# EAGLE library part PIC33FJ64GS608 (library 1dah)
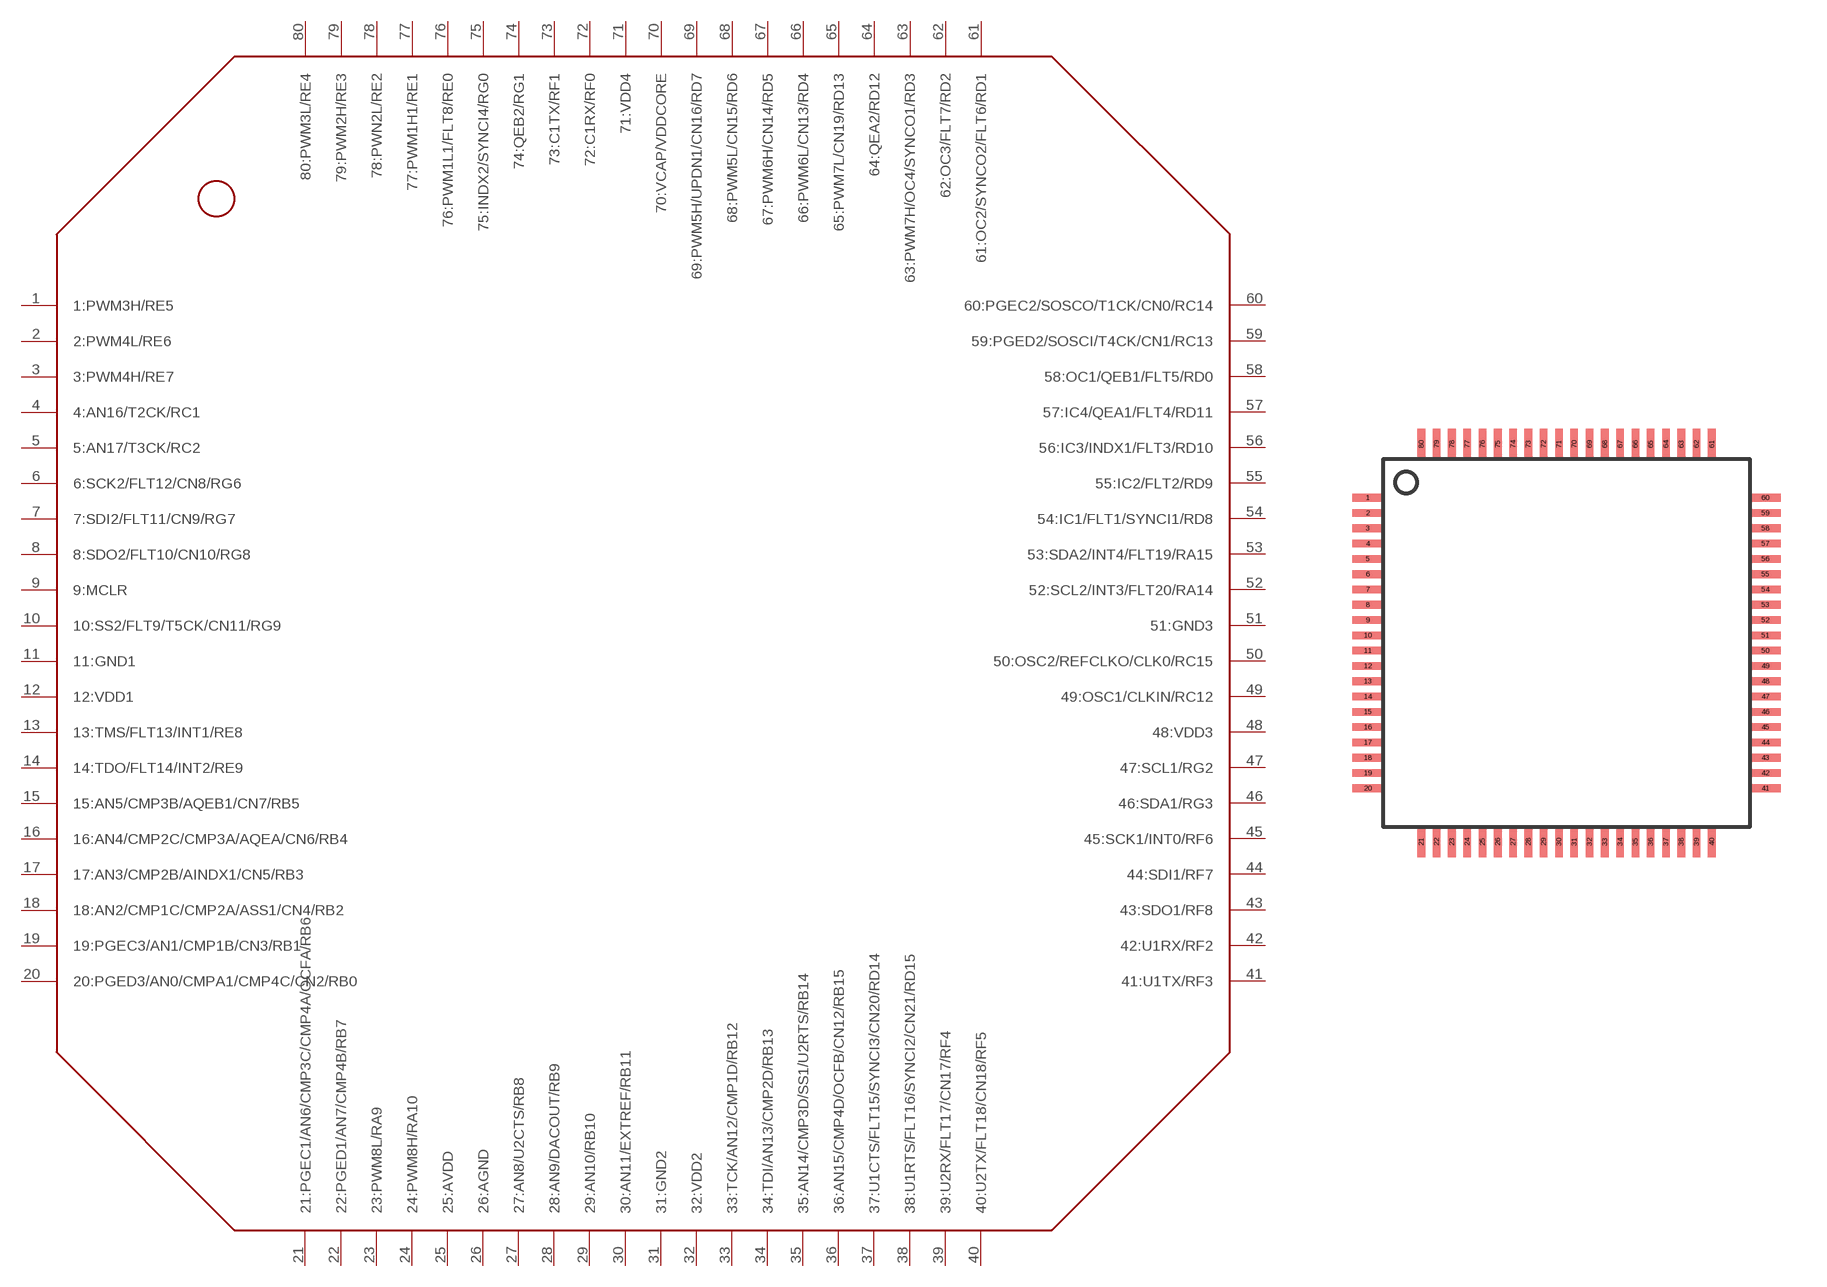
[diagram p15: symbol with the pads of TQFP80; footprint TQFP80]

Designator prefix -

## PIC33FJ64GS608  [TQFP80]
1  1:PWM3H/RE5
2  2:PWM4L/RE6
3  3:PWM4H/RE7
4  4:AN16/T2CK/RC1
5  5:AN17/T3CK/RC2
6  6:SCK2/FLT12/CN8/RG6
7  7:SDI2/FLT11/CN9/RG7
8  8:SDO2/FLT10/CN10/RG8
9  9:MCLR
10  10:SS2/FLT9/T5CK/CN11/RG9
11  11:GND1
12  12:VDD1
13  13:TMS/FLT13/INT1/RE8
14  14:TDO/FLT14/INT2/RE9
15  15:AN5/CMP3B/AQEB1/CN7/RB5
16  16:AN4/CMP2C/CMP3A/AQEA/CN6/RB4
17  17:AN3/CMP2B/AINDX1/CN5/RB3
18  18:AN2/CMP1C/CMP2A/ASS1/CN4/RB2
19  19:PGEC3/AN1/CMP1B/CN3/RB1
20  20:PGED3/AN0/CMPA1/CMP4C/CN2/RB0
21  21:PGEC1/AN6/CMP3C/CMP4A/OCFA/RB6
22  22:PGED1/AN7/CMP4B/RB7
23  23:PWM8L/RA9
24  24:PWM8H/RA10
25  25:AVDD
26  26:AGND
27  27:AN8/U2CTS/RB8
28  28:AN9/DACOUT/RB9
29  29:AN10/RB10
30  30:AN11/EXTREF/RB11
31  31:GND2
32  32:VDD2
33  33:TCK/AN12/CMP1D/RB12
34  34:TDI/AN13/CMP2D/RB13
35  35:AN14/CMP3D/SS1/U2RTS/RB14
36  36:AN15/CMP4D/OCFB/CN12/RB15
37  37:U1CTS/FLT15/SYNCI3/CN20/RD14
38  38:U1RTS/FLT16/SYNCI2/CN21/RD15
39  39:U2RX/FLT17/CN17/RF4
40  40:U2TX/FLT18/CN18/RF5
41  41:U1TX/RF3
42  42:U1RX/RF2
43  43:SDO1/RF8
44  44:SDI1/RF7
45  45:SCK1/INT0/RF6
46  46:SDA1/RG3
47  47:SCL1/RG2
48  48:VDD3
49  49:OSC1/CLKIN/RC12
50  50:OSC2/REFCLKO/CLK0/RC15
51  51:GND3
52  52:SCL2/INT3/FLT20/RA14
53  53:SDA2/INT4/FLT19/RA15
54  54:IC1/FLT1/SYNCI1/RD8
55  55:IC2/FLT2/RD9
56  56:IC3/INDX1/FLT3/RD10
57  57:IC4/QEA1/FLT4/RD11
58  58:OC1/QEB1/FLT5/RD0
59  59:PGED2/SOSCI/T4CK/CN1/RC13
60  60:PGEC2/SOSCO/T1CK/CN0/RC14
61  61:OC2/SYNCO2/FLT6/RD1
62  62:OC3/FLT7/RD2
63  63:PWM7H/OC4/SYNCO1/RD3
64  64:QEA2/RD12
65  65:PWM7L/CN19/RD13
66  66:PWM6L/CN13/RD4
67  67:PWM6H/CN14/RD5
68  68:PWM5L/CN15/RD6
69  69:PWM5H/UPDN1/CN16/RD7
70  70:VCAP/VDDCORE
71  71:VDD4
72  72:C1RX/RF0
73  73:C1TX/RF1
74  74:QEB2/RG1
75  75:INDX2/SYNCI4/RG0
76  76:PWM1L1/FLT8/RE0
77  77:PWM1H1/RE1
78  78:PWN2L/RE2
79  79:PWM2H/RE3
80  80:PWM3L/RE4

## Footprint TQFP80 (pad centres in mm)
smd 1 x 0.25: 1 -6.5,4.75; 2 -6.5,4.25; 3 -6.5,3.75; 4 -6.5,3.25; 5 -6.5,2.75; 6 -6.5,2.25; 7 -6.5,1.75; 8 -6.5,1.25; 9 -6.5,0.75; 10 -6.5,0.25; 11 -6.5,-0.25; 12 -6.5,-0.75; 13 -6.5,-1.25; 14 -6.5,-1.75; 15 -6.5,-2.25; 16 -6.5,-2.75; 17 -6.5,-3.25; 18 -6.5,-3.75; 19 -6.5,-4.25; 20 -6.5,-4.75; 41 6.5,-4.75; 42 6.5,-4.25; 43 6.5,-3.75; 44 6.5,-3.25; 45 6.5,-2.75; 46 6.5,-2.25; 47 6.5,-1.75; 48 6.5,-1.25; 49 6.5,-0.75; 50 6.5,-0.25; 51 6.5,0.25; 52 6.5,0.75; 53 6.5,1.25; 54 6.5,1.75; 55 6.5,2.25; 56 6.5,2.75; 57 6.5,3.25; 58 6.5,3.75; 59 6.5,4.25; 60 6.5,4.75
smd 0.25 x 1: 21 -4.75,-6.5; 22 -4.25,-6.5; 23 -3.75,-6.5; 24 -3.25,-6.5; 25 -2.75,-6.5; 26 -2.25,-6.5; 27 -1.75,-6.5; 28 -1.25,-6.5; 29 -0.75,-6.5; 30 -0.25,-6.5; 31 0.25,-6.5; 32 0.75,-6.5; 33 1.25,-6.5; 34 1.75,-6.5; 35 2.25,-6.5; 36 2.75,-6.5; 37 3.25,-6.5; 38 3.75,-6.5; 39 4.25,-6.5; 40 4.75,-6.5; 61 4.75,6.5; 62 4.25,6.5; 63 3.75,6.5; 64 3.25,6.5; 65 2.75,6.5; 66 2.25,6.5; 67 1.75,6.5; 68 1.25,6.5; 69 0.75,6.5; 70 0.25,6.5; 71 -0.25,6.5; 72 -0.75,6.5; 73 -1.25,6.5; 74 -1.75,6.5; 75 -2.25,6.5; 76 -2.75,6.5; 77 -3.25,6.5; 78 -3.75,6.5; 79 -4.25,6.5; 80 -4.75,6.5